# Altium footprint library 673298040.PcbLib: 1 footprints
Each footprint in its own frame and in the unit in brackets; x right, y up, seen from the top. Pads: shape width x height; smd on the part's side, far side on the other; paste and mask are expansions set on the pad; w line width, h text height; cw(c..) or ccw(c..) is an arc to the next point about the centre after c.
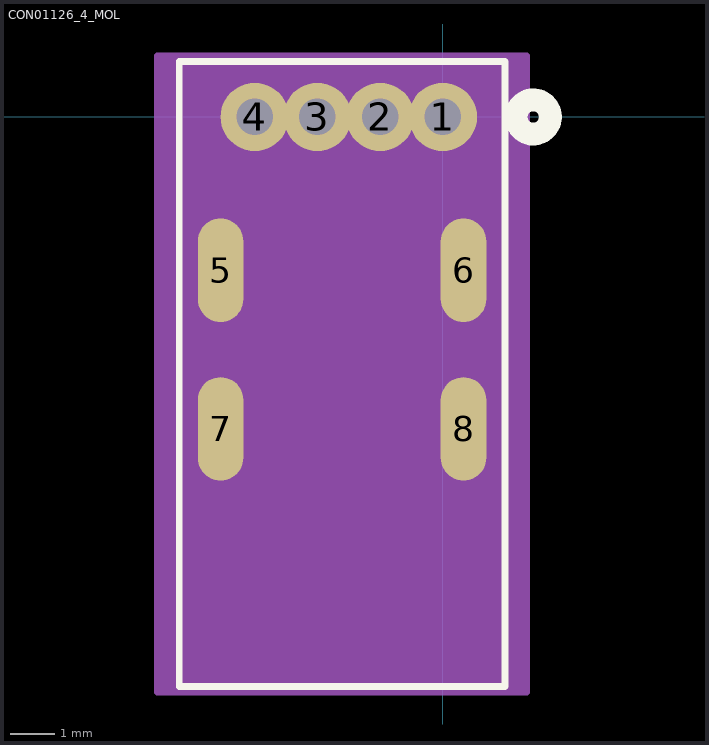
[diagram p0: the footprint, top view; thin cyan lines are the x and y axes]

## CON01126_4_MOL [mil]
pads (8):
  round 60 / inner round 60 / far side round 52 hole 32 paste-26 mask+0: 1(0,0) 2(-55.12,0) 3(-110.24,0) 4(-165.35,0)
  oval 40x91 smd paste-45.5 mask-45.5: 5(-195.28,-134.65) 6(18.11,-134.65) 7(-195.28,-274.02) 8(18.11,-274.02)
Top Overlay:
  circle w20: c79.42,0 r15
  lines w6: -231.58,-500.3 54.42,-500.3 54.42,48.7 -231.58,48.7 -231.58,-500.3
Bottom Overlay:
  circle w20: c79.42,0 r15
Mechanical 13:
  circle w20: c17.32,-54.33 r15
  lines w1: -226.58,-495.3 49.42,-495.3 49.42,43.7 -226.58,43.7 -226.58,-495.3
Mechanical 15:
  region: 73.42,53.7 -250.58,53.7 -250.58,-505.3 73.42,-505.3
  region: 49.42,43.7 -226.58,43.7 -226.58,-495.3 49.42,-495.3
  lines w6: -250.58,-505.3 -250.58,53.7 73.42,53.7 73.42,-505.3 -250.58,-505.3
Multi-Layer:
  lines w20: -195.28,-299.61 -195.28,-248.43 ; -195.28,-160.24 -195.28,-109.05 ; 18.11,-299.61 18.11,-248.43 ; 18.11,-160.24 18.11,-109.05